# EAGLE library part PMW3360DM-T2QU (library PMW3360DM-T2QU)
Optical gaming navigation sensor Source: Datasheet <http://www.pixart.com.tw/upload/PMS0058-PMW3360DM-T2QU-NNDS-R1.30-06042016_20160902201411.pdf>
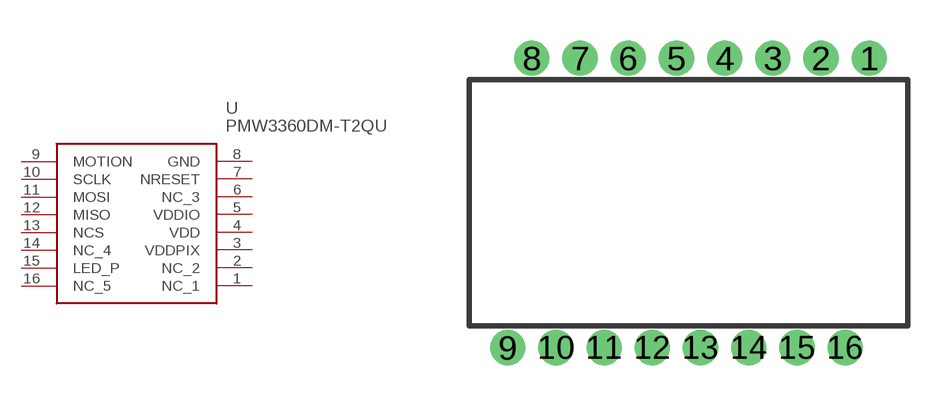
[diagram p0: symbol with the pads of PMW3360; footprint PMW3360]

Designator prefix U

## PMW3360DM-T2QU (Description: Optical gaming navigation sensor; Height: mm; Manufacturer_Name: PixArt Imaging Inc.; Manufacturer_Part_Number: PMW3360DM-T2QU)  [PMW3360]
1  NC_1
2  NC_2
3  VDDPIX
4  VDD
5  VDDIO
6  NC_3
7  NRESET
8  GND
9  MOTION
10  SCLK
11  MOSI
12  MISO
13  NCS
14  NC_4
15  LED_P
16  NC_5

## Footprint PMW3360 (pad centres in mm)
PMW3360
drill 0.7 pad 1.3: 1 6.675,5.35; 2 4.895,5.35; 3 3.115,5.35; 4 1.335,5.35; 5 -0.445,5.35; 6 -2.225,5.35; 7 -4.005,5.35; 8 -5.785,5.35; 9 -6.675,-5.35; 10 -4.895,-5.35; 11 -3.115,-5.35; 12 -1.335,-5.35; 13 0.445,-5.35; 14 2.225,-5.35; 15 4.005,-5.35; 16 5.785,-5.35